# EAGLE library part 255-424-5 (library con-wago255)
WAGO
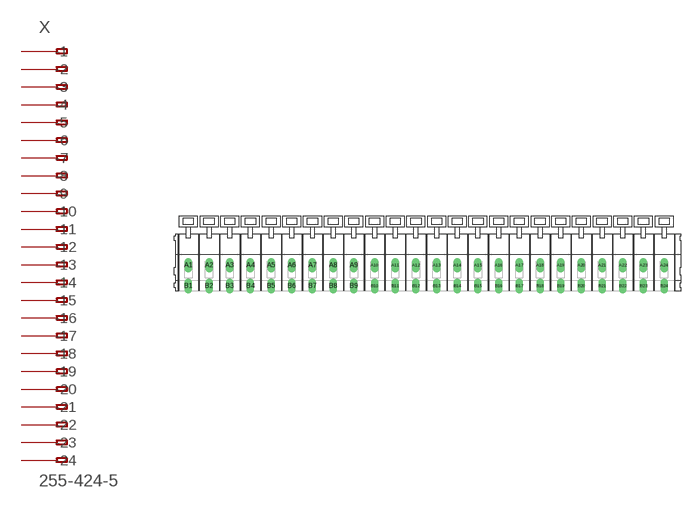
[diagram p88: symbol with the pads of 255-424-5; footprint 255-424-5]

Designator prefix X

## 255-424-5 (OC_FARNELL: unknown; OC_NEWARK: unknown)  [255-424-5]
A1  -1  pas
A2  -2  pas
A3  -3  pas
A4  -4  pas
A5  -5  pas
A6  -6  pas
A7  -7  pas
A8  -8  pas
A9  -9  pas
A10  -10  pas
A11  -11  pas
A12  -12  pas
A13  -13  pas
A14  -14  pas
A15  -15  pas
A16  -16  pas
A17  -17  pas
A18  -18  pas
A19  -19  pas
A20  -20  pas
A21  -21  pas
A22  -22  pas
A23  -23  pas
A24  -24  pas
B1  B-1  pas
B2  B-2  pas
B3  B-3  pas
B4  B-4  pas
B5  B-5  pas
B6  B-6  pas
B7  B-7  pas
B8  B-8  pas
B9  B-9  pas
B10  B-10  pas
B11  B-11  pas
B12  B-12  pas
B13  B-13  pas
B14  B-14  pas
B15  B-15  pas
B16  B-16  pas
B17  B-17  pas
B18  B-18  pas
B19  B-19  pas
B20  B-20  pas
B21  B-21  pas
B22  B-22  pas
B23  B-23  pas
B24  B-24  pas

## Footprint 255-424-5 (pad centres in mm)
Grid 5.0 mm
drill 1.2 long: A1 -57.5,0; A2 -52.5,0; A3 -47.5,0; A4 -42.5,0; A5 -37.5,0; A6 -32.5,0; A7 -27.5,0; A8 -22.5,0; A9 -17.5,0; A10 -12.5,0; A11 -7.5,0; A12 -2.5,0; A13 2.5,0; A14 7.5,0; A15 12.5,0; A16 17.5,0; A17 22.5,0; A18 27.5,0; A19 32.5,0; A20 37.5,0; A21 42.5,0; A22 47.5,0; A23 52.5,0; A24 57.5,0; B1 -57.5,-5; B2 -52.5,-5; B3 -47.5,-5; B4 -42.5,-5; B5 -37.5,-5; B6 -32.5,-5; B7 -27.5,-5; B8 -22.5,-5; B9 -17.5,-5; B10 -12.5,-5; B11 -7.5,-5; B12 -2.5,-5; B13 2.5,-5; B14 7.5,-5; B15 12.5,-5; B16 17.5,-5; B17 22.5,-5; B18 27.5,-5; B19 32.5,-5; B20 37.5,-5; B21 42.5,-5; B22 47.5,-5; B23 52.5,-5; B24 57.5,-5